# Altium footprint library NewLibrary.PcbLib: 111 footprints (part 6 of 7)
Each footprint in its own frame and in the unit in brackets; x right, y up, seen from the top. Pads: shape width x height; smd on the part's side, far side on the other; paste and mask are expansions set on the pad; w line width, h text height; cw(c..) or ccw(c..) is an arc to the next point about the centre after c.
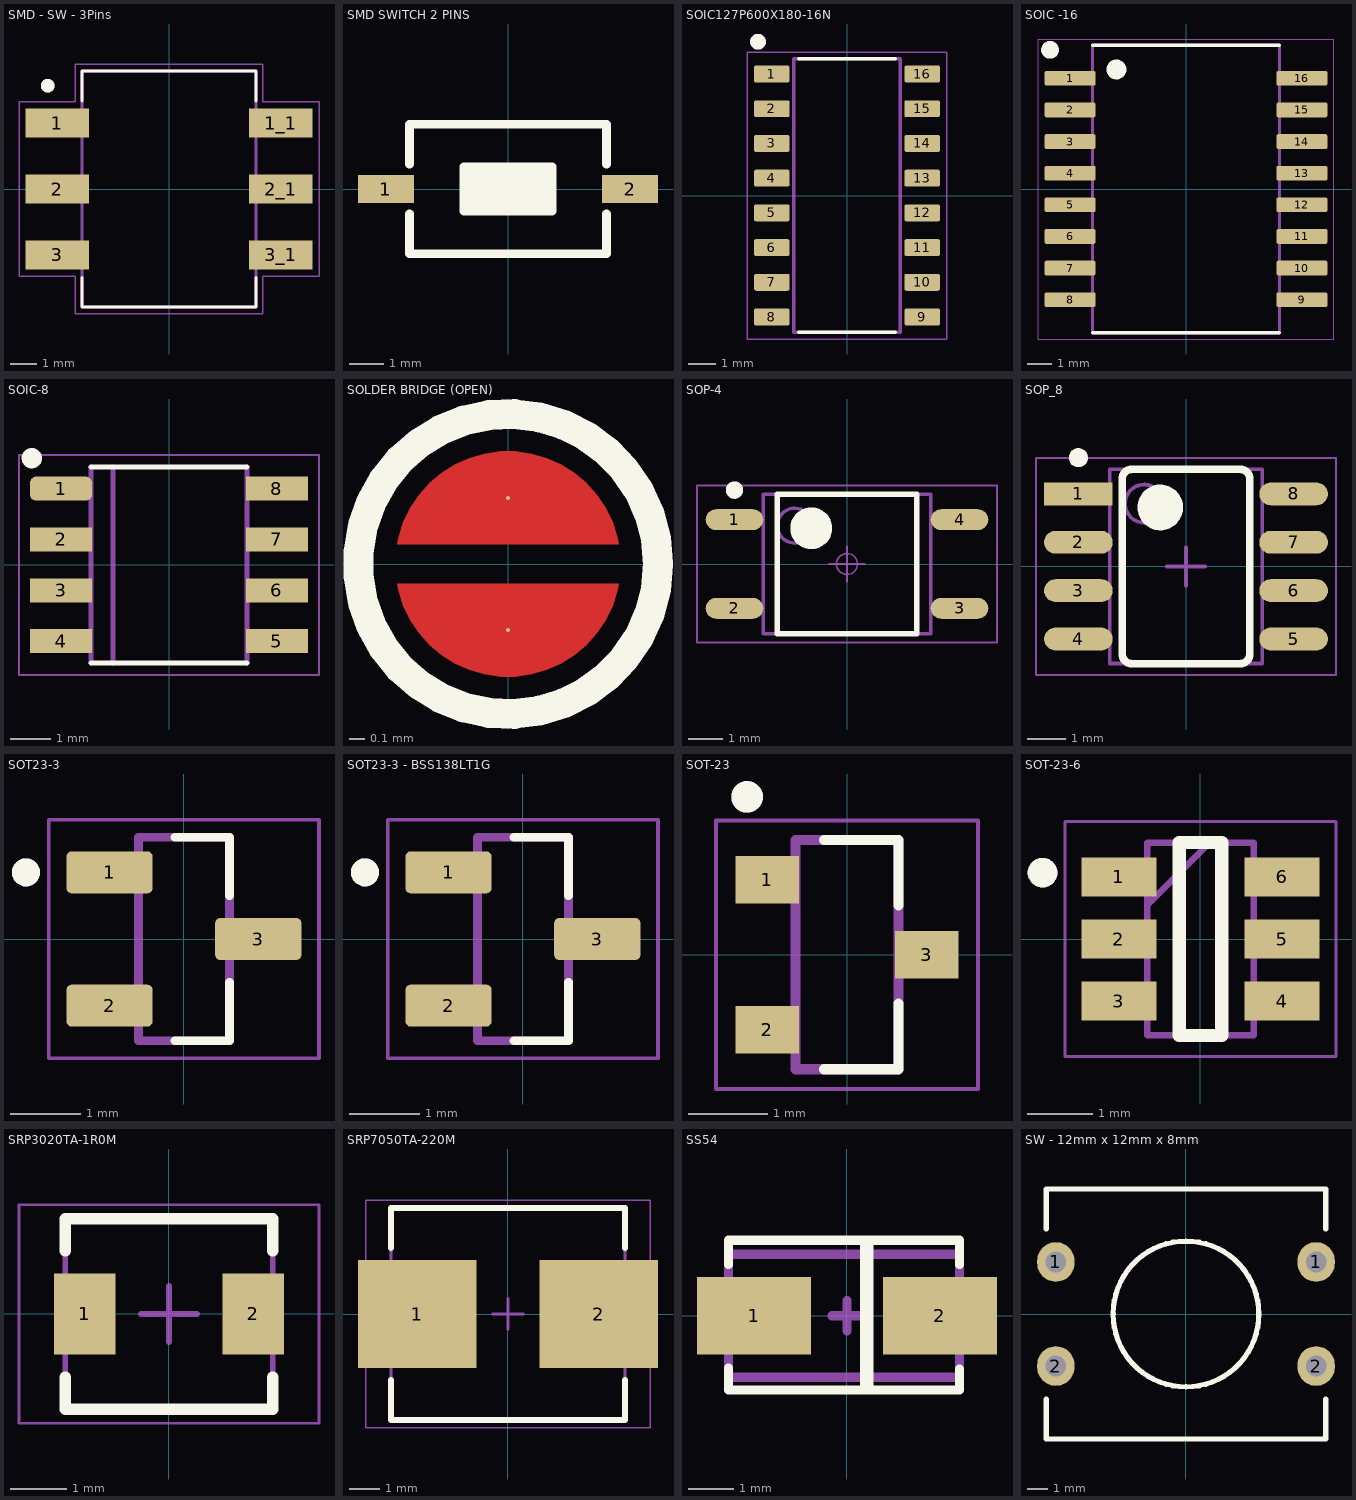
[diagram p5: the footprints below, top view; thin cyan lines are the x and y axes]

## SMD - SW - 3Pins [mm] "Pitch - 2.54mm"
pads (6):
  rect 2.44x1.13 smd: 1(-4.305,2.54) 1_1(4.305,2.54) 2(-4.305,0) 2_1(4.305,0) 3(-4.305,-2.54) 3_1(4.305,-2.54)
Top Overlay:
  circle w0.3: c-4.669,3.977 r0.112
  lines w0.127: -3.35,-3.405 -3.35,-4.545 3.35,-4.545 3.35,-3.405 ; -3.35,3.4 -3.35,4.545 3.35,4.545 3.35,3.4
Mechanical 13:
  circle w0.3: c-4.669,3.977 r0.112
  lines w0.127: -3.35,-4.545 -3.35,4.545 3.35,4.545 3.35,-4.545 -3.35,-4.545
Mechanical 15:
  lines w0.05: -5.775,-3.355 -5.775,3.355 -3.6,3.355 -3.6,4.795 3.6,4.795 3.6,3.355 5.775,3.355 5.775,-3.355 3.6,-3.355 3.6,-4.795 -3.6,-4.795 -3.6,-3.355 -5.775,-3.355
3D body "step_temp.STEP": height 4.2, standoff 0, extent -4.955,-4.545 4.955,4.545

## SMD SWITCH 2 PINS [mm] "SMD"
pads (2):
  rect 1.6x0.8 smd: 1(-3.502,0) 2(3.498,0)
Top Overlay:
  rectangle: -1.272,-0.635 1.268,0.635
  lines w0.254: -2.822,-0.711 -2.822,-1.854 2.817,-1.854 2.817,-0.711 ; -2.822,0.712 -2.822,1.855 2.817,1.855 2.817,0.712 ; -1.272,-0.635 1.268,-0.635 1.268,0.635 -1.272,0.635 -1.272,-0.635
3D body "User Library-Button-SMD.step": height 2.5, standoff 0, extent -3.052,-1.849 3.048,1.851

## SOIC127P600X180-16N [mm]
pads (16):
  rrect25% 1.31x0.62 smd: 1(-2.75,4.445) 2(-2.75,3.175) 3(-2.75,1.905) 4(-2.75,0.635) 5(-2.75,-0.635) 6(-2.75,-1.905) 7(-2.75,-3.175) 8(-2.75,-4.445) 9(2.75,-4.445) 10(2.75,-3.175) 11(2.75,-1.905) 12(2.75,-0.635) 13(2.75,0.635) 14(2.75,1.905) 15(2.75,3.175) 16(2.75,4.445)
Top Overlay:
  circle w0.381: c-3.258,5.628 r0.1
  lines w0.127: -1.775,-5 1.775,-5 -1.775,-5 ; -1.775,5 1.775,5 -1.775,5
Mechanical 13:
  circle w0.2: c-3.258,5.628 r0.1
  lines w0.127: -1.95,-5 1.95,-5 1.95,5 -1.95,5 -1.95,-5
Mechanical 15:
  lines w0.05: -3.655,-5.25 -3.655,5.25 3.655,5.25 3.655,-5.25 -3.655,-5.25
3D body "step_temp.STEP": height 1.8, standoff 0, extent -3,-5 3,5

## SOIC -16 [mm] "SMD"
pads (16):
  rrect25% 2.05x0.59 smd: 1(-4.655,4.445) 2(-4.655,3.175) 3(-4.655,1.905) 4(-4.655,0.635) 5(-4.655,-0.635) 6(-4.655,-1.905) 7(-4.655,-3.175) 8(-4.655,-4.445) 9(4.655,-4.445) 10(4.655,-3.175) 11(4.655,-1.905) 12(4.655,-0.635) 13(4.655,0.635) 14(4.655,1.905) 15(4.655,3.175) 16(4.655,4.445)
Top Overlay:
  circle w0.4: c-2.797,4.8 r0.2
  circle w0.508: c-5.461,5.588 r0.1
  lines w0.127: -3.75,-5.775 3.75,-5.775 ; -3.75,5.775 3.75,5.775
Mechanical 13:
  lines w0.127: -3.75,-5.775 -3.75,5.775 3.75,5.775 3.75,-5.775 -3.75,-5.775
Mechanical 15:
  lines w0.05: -5.93,-6.025 -5.93,6.025 5.93,6.025 5.93,-6.025 -5.93,-6.025
3D body "DS3231SN#.STEP": height 2.65, standoff 0, extent -5.162,-5.15 5.162,5.15

## SOIC-8 [mm] "SMD"
pads (8):
  rrect50% 1.55x0.6 smd: 1(-2.7,1.905)
  rect 1.55x0.6 smd: 2(-2.7,0.635) 3(-2.7,-0.635) 4(-2.7,-1.905) 5(2.7,-1.905) 6(2.7,-0.635) 7(2.7,0.635) 8(2.7,1.905)
Top Overlay:
  circle w0.254: c-3.429,2.667 r0.127
  lines w0.127: -1.95,-2.45 1.95,-2.45 ; -1.95,2.45 1.95,2.45
Mechanical 13:
  region: 3.1,1.661 2.001,1.661 2.001,2.15 3.1,2.15
  region: 3.102,0.392 2.002,0.392 2.002,0.878 3.102,0.878
  region: 3.103,-0.879 2.001,-0.879 2.001,-0.392 3.103,-0.392
  region: 3.107,-2.15 2,-2.15 2,-1.667 3.107,-1.667
  region: -2,-2.155 -3.105,-2.155 -3.105,-1.66 -2,-1.66
  region: -2.001,-0.882 -3.102,-0.882 -3.102,-0.389 -2.001,-0.389
  region: -2.003,0.387 -3.103,0.387 -3.103,0.883 -2.003,0.883
  region: -2.003,1.659 -3.101,1.659 -3.101,2.153 -2.003,2.153
  lines w0.127: -1.95,-2.45 -1.95,2.45 ; -1.4,-2.45 -1.4,2.45 ; 1.95,-2.45 1.95,2.45
Mechanical 15:
  lines w0.05: -3.75,-2.75 -3.75,2.75 3.75,2.75 3.75,-2.75 -3.75,-2.75
3D body "AT24C256C-SSPD-T.STEP": height 1.75, standoff 0, extent -2.995,-2.462 2.995,2.462

## SOLDER BRIDGE (OPEN) [mil] "A solder bridge jumper."
pads (2):
  round 1 smd: 1(0,17.33) 2(0,-17.33)
Top Layer:
  region: -29.08,5.13 -28.72,7.16 -27.44,11.09 -25.63,14.8 -23.32,18.22 -20.56,21.29 -17.4,23.95 -13.9,26.13 -10.12,27.81 -6.15,28.95 -2.06,29.53 2.06,29.53 6.15,28.95 10.12,27.81 13.9,26.13 17.4,23.95 20.56,21.29 23.32,18.22 25.63,14.8 27.44,11.09 28.72,7.16 29.08,5.13
  region: 29.08,-5.13 28.72,-7.16 27.44,-11.09 25.63,-14.8 23.32,-18.22 20.56,-21.29 17.4,-23.95 13.9,-26.13 10.12,-27.81 6.15,-28.95 2.06,-29.53 -2.06,-29.53 -6.15,-28.95 -10.12,-27.81 -13.9,-26.13 -17.4,-23.95 -20.56,-21.29 -23.32,-18.22 -25.63,-14.8 -27.44,-11.09 -28.72,-7.16 -29.08,-5.13
Top Overlay:
  circle w7.87: c0,0 r39.37

## SOP-4 [mm]
pads (4):
  oval 1.65x0.6 smd: 1(-3.225,1.27) 2(-3.225,-1.27) 3(3.225,-1.27) 4(3.225,1.27)
Top Overlay:
  circle w0.6: c-1.025,1.025 r0.3
  circle w0.25: c-3.225,2.12 r0.125
  lines w0.15: -2,-2 2,-2 2,2 -2,2 -2,-2
Top Component Center:
  circle w0.05: c0,0 r0.3
  lines w0.05: -0.5,0 0.5,0 ; 0,-0.5 0,0.5
Bottom Assembly:
  lines w0.05: -4.3,-2.25 4.3,-2.25 4.3,2.25 -4.3,2.25 -4.3,-2.25
Bottom Courtyard:
  circle w0.1: c-1.5,1.1 r0.5
  lines w0.1: -2.4,-2 2.4,-2 2.4,2 -2.4,2 -2.4,-2
3D body "SOP254P700X220-4N.step": height 2.2, standoff 0, extent -3.5,-2 3.5,2

## SOP_8 [mm]
pads (8):
  rect 1.8x0.6 smd: 1(-2.825,1.905)
  oval 1.8x0.6 smd: 2(-2.825,0.635) 3(-2.825,-0.635) 4(-2.825,-1.905) 5(2.825,-1.905) 6(2.825,-0.635) 7(2.825,0.635) 8(2.825,1.905)
Top Overlay:
  circle w0.25: c-2.825,2.855 r0.125
  circle w0.6: c-0.675,1.55 r0.3
  lines w0.2: -1.675,-2.296 ccw(c-1.421,-2.296) -1.421,-2.55 1.421,-2.55 ccw(c1.421,-2.296) 1.675,-2.296 1.675,2.296 ccw(c1.421,2.296) 1.421,2.55 -1.421,2.55 ccw(c-1.421,2.296) -1.675,2.296 -1.675,-2.296
Mechanical 13:
  circle w0.1: c-1.1,1.65 r0.5
  lines w0.1: -2,-2.55 -2,2.55 2,2.55 2,-2.55 -2,-2.55
Mechanical 15:
  lines w0.05: -3.937,-2.85 -3.937,2.85 3.937,2.85 3.937,-2.85 -3.937,-2.85
  lines w0.1: -0.5,0 0.5,0 ; 0,-0.5 0,0.5
3D body "CircuitWorks-SO-8 (PIC12FXXX).step": height 1.6, standoff 0, extent -2.995,-2.45 2.995,2.45

## SOT23-3 [mm] "SMD"
pads (3):
  rrect25% 1.23x0.6 smd paste+0 mask+0.102: 1(-1.06,0.95) 2(-1.06,-0.95) 3(1.06,0)
Top Overlay:
  circle w0.2: c-2.25,0.95 r0.1
  lines w0.127: -0.125,-1.45 0.65,-1.45 0.65,-0.62 ; -0.125,1.45 0.65,1.45 0.65,0.62
Mechanical 13:
  circle w0.2: c-2.25,0.95 r0.1
  lines w0.127: -0.65,-1.45 0.65,-1.45 0.65,1.45 -0.65,1.45 -0.65,-1.45
Mechanical 15:
  lines w0.05: -1.925,-1.7 1.925,-1.7 1.925,1.7 -1.925,1.7 -1.925,-1.7
3D body "step_temp.STEP": height 1.11, standoff 0, extent -1.2,-1.45 1.2,1.45

## SOT23-3 - BSS138LT1G [mm] "SMD"
pads (3):
  rrect25% 1.23x0.6 smd paste+0 mask+0.102: 1(-1.06,0.95) 2(-1.06,-0.95) 3(1.06,0)
Top Overlay:
  circle w0.2: c-2.25,0.95 r0.1
  lines w0.127: -0.125,-1.45 0.65,-1.45 0.65,-0.62 ; -0.125,1.45 0.65,1.45 0.65,0.62
Mechanical 13:
  circle w0.2: c-2.25,0.95 r0.1
  lines w0.127: -0.65,-1.45 -0.65,1.45 0.65,1.45 0.65,-1.45 -0.65,-1.45
Mechanical 15:
  lines w0.05: -1.925,-1.7 -1.925,1.7 1.925,1.7 1.925,-1.7 -1.925,-1.7
3D body "step_temp.STEP": height 1.11, standoff 0, extent -1.2,-1.45 1.2,1.45

## SOT-23 [mm]
pads (3):
  rect 0.8x0.6 smd: 1(-1.01,0.95) 2(-1.01,-0.95) 3(1.01,0)
Top Overlay:
  circle w0.2: c-1.264,1.996 r0.1
  lines w0.127: -0.29,-1.45 0.65,-1.45 0.65,-0.62 ; -0.29,1.45 0.65,1.45 0.65,0.62
Mechanical 13:
  circle w0.2: c-1.264,1.996 r0.1
  lines w0.127: -0.65,-1.45 0.65,-1.45 0.65,1.45 -0.65,1.45 -0.65,-1.45
Mechanical 15:
  lines w0.05: -1.66,-1.7 -1.66,1.7 1.66,1.7 1.66,-1.7 -1.66,-1.7
3D body "SS8050-G--3DModel-STEP-1.STEP": height 1.14, standoff 0, extent -1.2,-1.448 1.2,1.448

## SOT-23-6 [mm] "SMD"
pads (6):
  rect 1.15x0.6 smd: 1(-1.25,0.95) 2(-1.25,0) 3(-1.25,-0.95) 4(1.25,-0.95) 5(1.25,0) 6(1.25,0.95)
Top Overlay:
  circle w0.254: c-2.419,1.016 r0.1
  lines w0.2: -0.325,-1.475 0.325,-1.475 0.325,1.475 -0.325,1.475 -0.325,-1.475
Mechanical 13:
  circle w0.254: c-2.419,1.016 r0.1
  lines w0.05: -2.075,-1.8 2.075,-1.8 2.075,1.8 -2.075,1.8 -2.075,-1.8
  lines w0.1: -0.812,0.525 0.138,1.475 ; -0.812,-1.475 0.812,-1.475 0.812,1.475 -0.812,1.475 -0.812,-1.475
3D body "step_temp.STEP": height 1.45, standoff 0, extent -1.4,-1.45 1.4,1.45

## SRP3020TA-1R0M [mm] "FIXED IND 1UH 4A 38 MOHM SMD"
pads (2):
  rect 1.1x1.45 smd: 1(-1.5,0) 2(1.5,0)
Top Overlay:
  lines w0.2: -1.85,-1.125 -1.85,-1.7 1.85,-1.7 1.85,-1.125 ; -1.85,1.125 -1.85,1.7 1.85,1.7 1.85,1.125
Bottom Assembly:
  lines w0.05: -2.675,-1.95 2.675,-1.95 2.675,1.95 -2.675,1.95 -2.675,-1.95
  lines w0.1: -0.5,0 0.5,0 ; 0,-0.5 0,0.5
Bottom Courtyard:
  lines w0.1: -1.85,-1.7 1.85,-1.7 1.85,1.7 -1.85,1.7 -1.85,-1.7
3D body "SRP3020TA.stp": height 1.99, standoff 0.18, extent -1.748,-1.6 1.748,1.6

## SRP7050TA-220M [mm] "FIXED IND 22UH 2.5A 170 MOHM SMD"
height 5
pads (2):
  rect 3.85x3.5 smd: 1(-2.95,0) 2(2.95,0)
Top Overlay:
  lines w0.2: -3.8,-2.15 -3.8,-3.45 3.8,-3.45 3.8,-2.15 ; -3.8,2.15 -3.8,3.45 3.8,3.45 3.8,2.15
Top Courtyard:
  lines w0.05: -4.625,-3.7 -4.625,3.7 4.625,3.7 4.625,-3.7 -4.625,-3.7
  lines w0.1: -0.5,0 0.5,0 ; 0,-0.5 0,0.5
Top Assembly:
  lines w0.1: -3.8,-3.45 -3.8,3.45 3.8,3.45 3.8,-3.45 -3.8,-3.45
3D body "SRP7050TA.stp": height 4.6, standoff -0.35, extent -3.625,-3.275 3.675,3.325

## SS54 [mm] "DIODE SCHOTTKY 40V 5A SMA"
pads (2):
  rect 2.5x1.7 smd: 1(-2.032,0) 2(2.032,0)
Top Overlay:
  rectangle: 0.279,-1.626 0.584,1.702
  lines w0.2: -2.591,-1.143 -2.591,-1.626 2.464,-1.626 2.464,-1.168 ; -2.591,1.118 -2.591,1.651 2.464,1.651 2.464,1.118
Top Courtyard:
  lines w0.2: -0.33,0 0.33,0 ; 0,-0.33 0,0.33 ; -2.591,-1.346 -2.591,1.346 2.463,1.346 2.463,-1.346 -2.591,-1.346
3D body "User Library-DO-214AC_SMA.STEP": height 2.25, standoff 0.05, extent -2.505,-1.363 2.495,1.337

## SW - 12mm x 12mm x 8mm [mm] "Black Switch"
pads (4):
  oval 1.8x1.905 hole 1: 1(-6.25,2.5) 1(6.25,2.5) 2(-6.25,-2.5) 2(6.25,-2.5)
Top Overlay:
  circle w0.254: c0,0 r3.5
  lines w0.254: -6.708,-4.087 -6.708,-6.007 6.708,-6.007 6.708,-4.087 ; -6.708,4.087 -6.708,6.007 6.708,6.007 6.708,4.087
3D body "Tactal Switch - THRU(12mmx12mmx8mm)-Black.stp": height 7.87, standoff -3.05, extent -6.708,-6.007 6.708,6.007